# Altium schematic symbol library Amplifier_Instrumentation.SchLib: 36 symbols
Pins are listed as number, name and electrical type; pins without a type are passive.

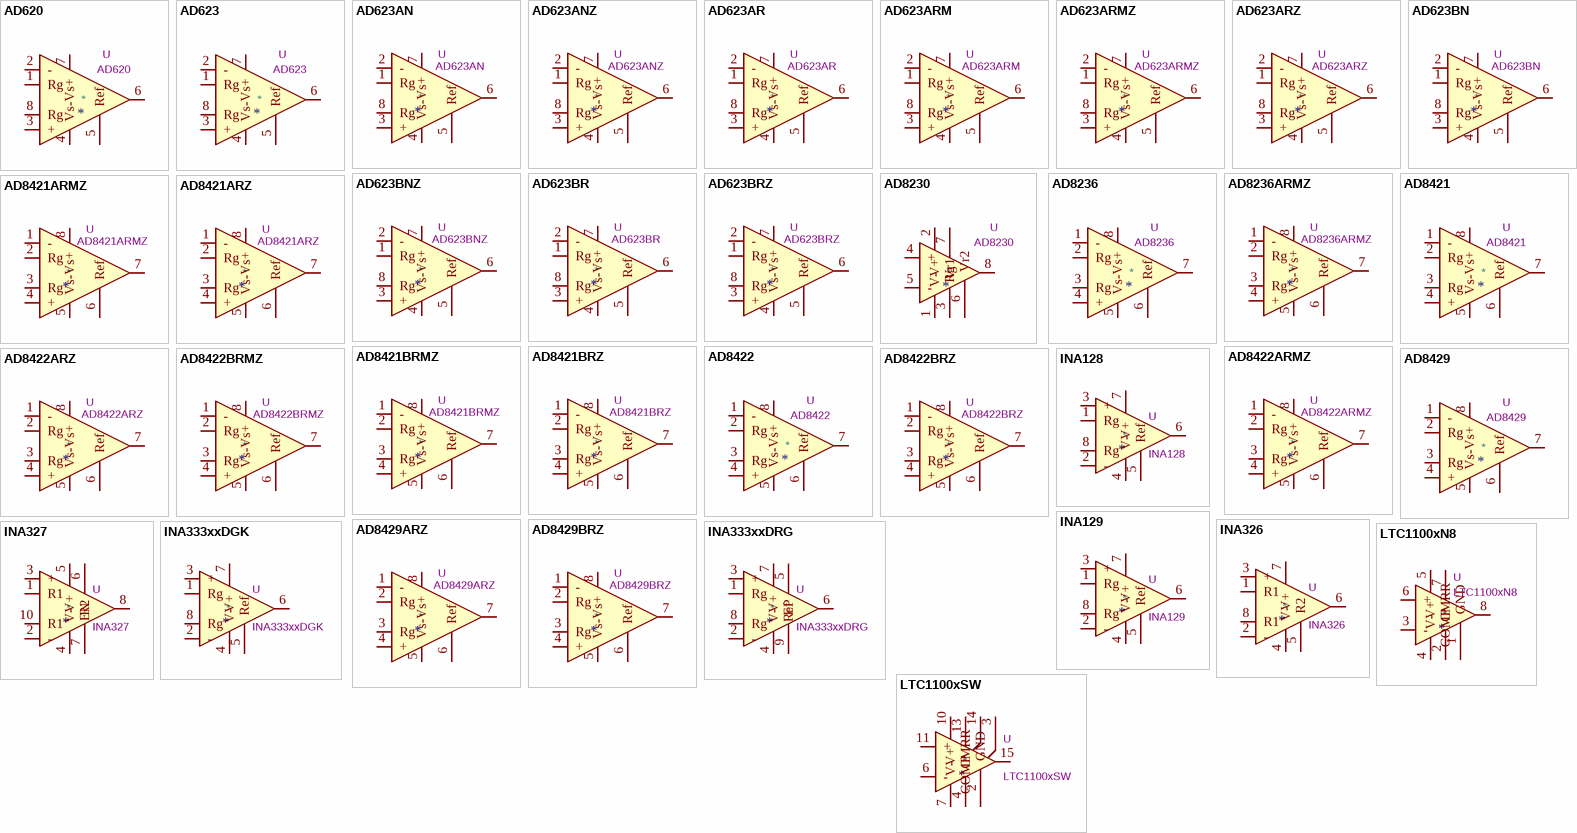
[diagram p0: symbols AD620 to LTC1100xSW]

## AD620
designator *  value AD620  Reference: U
ki_keywords: Instrumentation amplifier; ki_description: Low Cost, Low Power, Instrumentation Amplifier, DIP-8/SOIC-8; ki_fp_filters: SOIC*P1.27mm* DIP*W7.62mm*; Datasheet: https://www.analog.com/media/en/technical-documentation/data-sheets/AD620.pdf
pins: 1 Rg, 2 -, 3 +, 4 Vs-, 5 Ref, 6, 7 Vs+, 8 Rg

## AD623
designator *  value AD623  Reference: U
ki_keywords: single instumentation amplifier; ki_description: Single Rail-to-Rail, Low Cost Instrumentation Amplifier, DIP-8/SOIC-8/MSOP-8; ki_fp_filters: SOIC*P1.27mm* DIP*W7.62mm*; Datasheet: https://www.analog.com/media/en/technical-documentation/data-sheets/AD623.pdf
pins: 1 Rg, 2 -, 3 +, 4 Vs-, 5 Ref, 6, 7 Vs+, 8 Rg

## AD623AN
designator *  value AD623AN  Reference: U
ki_keywords: ad623 instumentation amplifier dip-8; ki_description: Single Supply, Rail to Rail, Instumentation Amplifier, DIP-8; ki_fp_filters: DIP-8*; Datasheet: https://www.analog.com/media/en/technical-documentation/data-sheets/AD623.pdf
pins: 1 Rg, 2 -, 3 +, 4 Vs-, 5 Ref, 6, 7 Vs+, 8 Rg

## AD623ANZ
designator *  value AD623ANZ  Reference: U
ki_keywords: ad623 instumentation amplifier dip-8; ki_description: Single Supply, Rail to Rail, Instumentation Amplifier, RoHS, DIP-8; ki_fp_filters: DIP-8*; Datasheet: https://www.analog.com/media/en/technical-documentation/data-sheets/AD623.pdf
pins: 1 Rg, 2 -, 3 +, 4 Vs-, 5 Ref, 6, 7 Vs+, 8 Rg

## AD623AR
designator *  value AD623AR  Reference: U
ki_keywords: ad623 instumentation amplifier soic-8; ki_description: Single Supply, Rail to Rail, Instumentation Amplifier, SOIC-8; ki_fp_filters: SOIC-8*; Datasheet: https://www.analog.com/media/en/technical-documentation/data-sheets/AD623.pdf
pins: 1 Rg, 2 -, 3 +, 4 Vs-, 5 Ref, 6, 7 Vs+, 8 Rg

## AD623ARM
designator *  value AD623ARM  Reference: U
ki_keywords: ad623 instumentation amplifier msop-8; ki_description: Single Supply, Rail to Rail, Instumentation Amplifier, MSOP-8; ki_fp_filters: MSOP-8*; Datasheet: https://www.analog.com/media/en/technical-documentation/data-sheets/AD623.pdf
pins: 1 Rg, 2 -, 3 +, 4 Vs-, 5 Ref, 6, 7 Vs+, 8 Rg

## AD623ARMZ
designator *  value AD623ARMZ  Reference: U
ki_keywords: ad623 instumentation amplifier msop-8; ki_description: Single Supply, Rail to Rail, Instumentation Amplifier, RoHS, MSOP-8; ki_fp_filters: MSOP-8*; Datasheet: https://www.analog.com/media/en/technical-documentation/data-sheets/AD623.pdf
pins: 1 Rg, 2 -, 3 +, 4 Vs-, 5 Ref, 6, 7 Vs+, 8 Rg

## AD623ARZ
designator *  value AD623ARZ  Reference: U
ki_keywords: ad623 instumentation amplifier soic-8; ki_description: Single Supply, Rail to Rail, Instumentation Amplifier, RoHS, SOIC-8; ki_fp_filters: SOIC-8*; Datasheet: https://www.analog.com/media/en/technical-documentation/data-sheets/AD623.pdf
pins: 1 Rg, 2 -, 3 +, 4 Vs-, 5 Ref, 6, 7 Vs+, 8 Rg

## AD623BN
designator *  value AD623BN  Reference: U
ki_keywords: ad623 instumentation amplifier dip-8; ki_description: Single Supply, Rail to Rail, Instumentation Amplifier, DIP-8; ki_fp_filters: DIP-8*; Datasheet: https://www.analog.com/media/en/technical-documentation/data-sheets/AD623.pdf
pins: 1 Rg, 2 -, 3 +, 4 Vs-, 5 Ref, 6, 7 Vs+, 8 Rg

## AD623BNZ
designator *  value AD623BNZ  Reference: U
ki_keywords: ad623 instumentation amplifier dip-8; ki_description: Single Supply, Rail to Rail, Instumentation Amplifier, RoHS, DIP-8; ki_fp_filters: DIP-8*; Datasheet: https://www.analog.com/media/en/technical-documentation/data-sheets/AD623.pdf
pins: 1 Rg, 2 -, 3 +, 4 Vs-, 5 Ref, 6, 7 Vs+, 8 Rg

## AD623BR
designator *  value AD623BR  Reference: U
ki_keywords: ad623 instumentation amplifier soic-8; ki_description: Single Supply, Rail to Rail, Instumentation Amplifier, SOIC-8; ki_fp_filters: SOIC-8*; Datasheet: https://www.analog.com/media/en/technical-documentation/data-sheets/AD623.pdf
pins: 1 Rg, 2 -, 3 +, 4 Vs-, 5 Ref, 6, 7 Vs+, 8 Rg

## AD623BRZ
designator *  value AD623BRZ  Reference: U
ki_keywords: ad623 instumentation amplifier soic-8; ki_description: Single Supply, Rail to Rail, Instumentation Amplifier, RoHS, SOIC-8; ki_fp_filters: SOIC-8*; Datasheet: https://www.analog.com/media/en/technical-documentation/data-sheets/AD623.pdf
pins: 1 Rg, 2 -, 3 +, 4 Vs-, 5 Ref, 6, 7 Vs+, 8 Rg

## AD8230
designator *  value AD8230  Reference: U
ki_keywords: single instrumentation amplifier; ki_description: 16V Rail-to-Rail, Zero-Drift, Precision Instrumentation Amplifier, SOIC-8; ki_fp_filters: SOIC*3.9x4.9mm*P1.27mm*; Footprint: Package_SO:SOIC-8_3.9x4.9mm_P1.27mm; Datasheet: https://www.analog.com/media/en/technical-documentation/data-sheets/AD8230.pdf
pins: 1 V-, 2 V+, 3 Vr1, 4 +, 5 -, 6 Vr2, 7 Rg, 8

## AD8236
designator *  value AD8236  Reference: U
ki_keywords: single instumentation amplifier; ki_description: Single 40 μA Micropower Instrumentation Amplifier with Zero Crossover Distortion, MSOP-8; ki_fp_filters: SOIC*3.9x4.9mm*P1.27mm* MSOP*3x3mm*P0.65mm*; Datasheet: https://www.analog.com/media/en/technical-documentation/data-sheets/AD8236.pdf
pins: 1 -, 2 Rg, 3 Rg, 4 +, 5 Vs-, 6 Ref, 7, 8 Vs+

## AD8236ARMZ
designator *  value AD8236ARMZ  Reference: U
ki_keywords: ad8236 instumentation amplifier msop-8; ki_description: Micropower Instumentation Amplifier with Zero Crossover Distortion, MSOP-8; ki_fp_filters: MSOP-8*; Datasheet: https://www.analog.com/media/en/technical-documentation/data-sheets/AD8236.pdf
pins: 1 -, 2 Rg, 3 Rg, 4 +, 5 Vs-, 6 Ref, 7, 8 Vs+

## AD8421
designator *  value AD8421  Reference: U
ki_keywords: single instumentation amplifier; ki_description: Single Low Power Instrumentation Amplifier, SOIC-8/MSOP-8; ki_fp_filters: SOIC*3.9x4.9mm*P1.27mm* MSOP*3x3mm*P0.65mm*; Datasheet: https://www.analog.com/media/en/technical-documentation/data-sheets/AD8421.pdf
pins: 1 -, 2 Rg, 3 Rg, 4 +, 5 Vs-, 6 Ref, 7, 8 Vs+

## AD8421ARMZ
designator *  value AD8421ARMZ  Reference: U
ki_keywords: ad8421 instumentation amplifier msop-8; ki_description: Low Power,  Instumentation Amplifier, MSOP-8; ki_fp_filters: MSOP-8*; Datasheet: https://www.analog.com/media/en/technical-documentation/data-sheets/AD8421.pdf
pins: 1 -, 2 Rg, 3 Rg, 4 +, 5 Vs-, 6 Ref, 7, 8 Vs+

## AD8421ARZ
designator *  value AD8421ARZ  Reference: U
ki_keywords: ad8421 instumentation amplifier soic-8; ki_description: Low Power, Instumentation Amplifier, SOIC-8; ki_fp_filters: SOIC-8*; Datasheet: https://www.analog.com/media/en/technical-documentation/data-sheets/AD8421.pdf
pins: 1 -, 2 Rg, 3 Rg, 4 +, 5 Vs-, 6 Ref, 7, 8 Vs+

## AD8421BRMZ
designator *  value AD8421BRMZ  Reference: U
ki_keywords: ad8421 instumentation amplifier msop-8; ki_description: Low Power, Instumentation Amplifier, MSOP-8; ki_fp_filters: MSOP-8*; Datasheet: https://www.analog.com/media/en/technical-documentation/data-sheets/AD8421.pdf
pins: 1 -, 2 Rg, 3 Rg, 4 +, 5 Vs-, 6 Ref, 7, 8 Vs+

## AD8421BRZ
designator *  value AD8421BRZ  Reference: U
ki_keywords: ad8421 instumentation amplifier soic-8; ki_description: Low Power, Instumentation Amplifier, SOIC-8; ki_fp_filters: SOIC-8*; Datasheet: https://www.analog.com/media/en/technical-documentation/data-sheets/AD8421.pdf
pins: 1 -, 2 Rg, 3 Rg, 4 +, 5 Vs-, 6 Ref, 7, 8 Vs+

## AD8422
designator *  value AD8422  Reference: U
ki_keywords: single instumentation amplifier; ki_description: Single High Performance, Low Power, Rail-to-Rail Precision Instrumentation Amplifier, SOIC-8/MSOP-8; ki_fp_filters: SOIC*3.9x4.9mm*P1.27mm* MSOP*3x3mm*P0.65mm*; Datasheet: https://www.analog.com/media/en/technical-documentation/data-sheets/AD8422.pdf
pins: 1 -, 2 Rg, 3 Rg, 4 +, 5 Vs-, 6 Ref, 7, 8 Vs+

## AD8422ARMZ
designator *  value AD8422ARMZ  Reference: U
ki_keywords: ad8422 instumentation amplifier msop-8; ki_description: Low Power, Rail to Rail, Instumentation Amplifier, MSOP-8; ki_fp_filters: MSOP-8*; Datasheet: https://www.analog.com/media/en/technical-documentation/data-sheets/AD8422.pdf
pins: 1 -, 2 Rg, 3 Rg, 4 +, 5 Vs-, 6 Ref, 7, 8 Vs+

## AD8422ARZ
designator *  value AD8422ARZ  Reference: U
ki_keywords: ad8422 instumentation amplifier soic-8; ki_description: Low Power, Rail to Rail, Instumentation Amplifier, SOIC-8; ki_fp_filters: SOIC-8*; Datasheet: https://www.analog.com/media/en/technical-documentation/data-sheets/AD8422.pdf
pins: 1 -, 2 Rg, 3 Rg, 4 +, 5 Vs-, 6 Ref, 7, 8 Vs+

## AD8422BRMZ
designator *  value AD8422BRMZ  Reference: U
ki_keywords: ad8422 instumentation amplifier msop-8; ki_description: Low Power, Rail to Rail, Instumentation Amplifier, MSOP-8; ki_fp_filters: MSOP-8*; Datasheet: https://www.analog.com/media/en/technical-documentation/data-sheets/AD8422.pdf
pins: 1 -, 2 Rg, 3 Rg, 4 +, 5 Vs-, 6 Ref, 7, 8 Vs+

## AD8422BRZ
designator *  value AD8422BRZ  Reference: U
ki_keywords: ad8422 instumentation amplifier soic-8; ki_description: Low Power, Rail to Rail, Instumentation Amplifier, SOIC-8; ki_fp_filters: SOIC-8*; Datasheet: https://www.analog.com/media/en/technical-documentation/data-sheets/AD8422.pdf
pins: 1 -, 2 Rg, 3 Rg, 4 +, 5 Vs-, 6 Ref, 7, 8 Vs+

## AD8429
designator *  value AD8429  Reference: U
ki_keywords: single instumentation amplifier; ki_description: Single Low Noise Instrumentation Amplifier, SOIC-8; ki_fp_filters: SOIC*3.9x4.9mm*P1.27mm* MSOP*3x3mm*P0.65mm*; Datasheet: https://www.analog.com/media/en/technical-documentation/data-sheets/AD8429.pdf
pins: 1 -, 2 Rg, 3 Rg, 4 +, 5 Vs-, 6 Ref, 7, 8 Vs+

## AD8429ARZ
designator *  value AD8429ARZ  Reference: U
ki_keywords: ad8429 instumentation amplifier soic-8; ki_description: Low Noise, Instumentation Amplifier, SOIC-8; ki_fp_filters: SOIC-8*; Datasheet: https://www.analog.com/media/en/technical-documentation/data-sheets/AD8429.pdf
pins: 1 -, 2 Rg, 3 Rg, 4 +, 5 Vs-, 6 Ref, 7, 8 Vs+

## AD8429BRZ
designator *  value AD8429BRZ  Reference: U
ki_keywords: ad8429 instumentation amplifier soic-8; ki_description: Low Noise, Instumentation Amplifier, SOIC-8; ki_fp_filters: SOIC-8*; Datasheet: https://www.analog.com/media/en/technical-documentation/data-sheets/AD8429.pdf
pins: 1 -, 2 Rg, 3 Rg, 4 +, 5 Vs-, 6 Ref, 7, 8 Vs+

## INA128
designator *  value INA128  Reference: U
ki_keywords: instrumentation opamp; ki_description: Precision, Low Power Instrumentation Amplifier G = 1 + 50kOhm/Rg, DIP-8/SOIC-8; ki_fp_filters: DIP*W7.62mm* SOIC*P1.27mm*; Datasheet: http://www.ti.com/lit/ds/symlink/ina128.pdf
pins: 1 Rg, 2 -, 3 +, 4 V-, 5 Ref, 6, 7 V+, 8 Rg

## INA129
designator *  value INA129  Reference: U
ki_keywords: instrumentation opamp; ki_description: Precision, Low Power Instrumentation Amplifier G = 1 + 49.4kOhm/Rg, DIP-8/SOIC-8; ki_fp_filters: DIP*W7.62mm* SOIC*P1.27mm*; Datasheet: http://www.ti.com/lit/ds/symlink/ina128.pdf
pins: 1 Rg, 2 -, 3 +, 4 V-, 5 Ref, 6, 7 V+, 8 Rg

## INA326
designator *  value INA326  Reference: U
ki_keywords: instrumentation opamp; ki_description: Precision, Rail-to-Rail I/O Instrumentation Amplifier, MSOP-8 package; ki_fp_filters: MSOP*3x3mm*P0.65mm*; Footprint: Package_SO:MSOP-8_3x3mm_P0.65mm; Datasheet: http://www.ti.com/lit/ds/symlink/ina326.pdf
pins: 1 R1, 2 -, 3 +, 4 V-, 5 R2, 6, 7 V+, 8 R1

## INA327
designator *  value INA327  Reference: U
ki_keywords: instrumentation opamp; ki_description: Precision, Rail-to-Rail I/O Instrumentation Amplifier, MSOP-10 package; ki_fp_filters: MSOP*3x3mm*P0.5mm*; Footprint: Package_SO:MSOP-10_3x3mm_P0.5mm; Datasheet: http://www.ti.com/lit/ds/symlink/ina326.pdf
pins: 1 R1, 2 -, 3 +, 4 V-, 5 V+, 6 EN, 7 R2, 8, 9 V+ hidden, 10 R1

## INA333xxDGK
designator *  value INA333xxDGK  Reference: U
ki_keywords: instrumentation opamp amplifier; ki_description: Zero Drift, Micropower Instrumentation Amplifier G = 1 + 100kOhm/Rg, VSSOP-8; ki_fp_filters: VSSOP*3.0x3.0mm*P0.65mm*; Footprint: Package_SO:VSSOP-8_3.0x3.0mm_P0.65mm; Datasheet: https://www.ti.com/lit/ds/symlink/ina333.pdf
pins: 1 Rg, 2 -, 3 +, 4 V-, 5 Ref, 6, 7 V+, 8 Rg

## INA333xxDRG
designator *  value INA333xxDRG  Reference: U
ki_keywords: instrumentation opamp amplifier; ki_description: Zero Drift, Micropower Instrumentation Amplifier G = 1 + 100kOhm/Rg, WSON-8; ki_fp_filters: WSON*3x3mm*P0.5mm*; Footprint: Package_SON:WSON-8-1EP_3x3mm_P0.5mm_EP1.45x2.4mm; Datasheet: https://www.ti.com/lit/ds/symlink/ina333.pdf
pins: 1 Rg, 2 -, 3 +, 4 V-, 5 Ref, 6, 7 V+, 8 Rg, 9 EP

## LTC1100xN8
designator *  value LTC1100xN8  Reference: U
ki_keywords: single instrumentation amp; ki_description: Single Precision, Zero-Drift Instrumentation Amplifier, Gain = 100, DIP-8; ki_fp_filters: DIP*W7.62mm*; Footprint: Package_DIP:DIP-8_W7.62mm; Datasheet: https://www.analog.com/media/en/technical-documentation/data-sheets/1100fc.pdf
pins: 1 GND, 2 CMRR, 3 -, 4 V-, 5 V+, 6 +, 7 COMP, 8

## LTC1100xSW
designator *  value LTC1100xSW  Reference: U
ki_keywords: single instrumentation amp; ki_description: Single Precision, Zero-Drift Instrumentation Amplifier, Gain = 10/100, SOIC-16W; ki_fp_filters: SOIC*7.5x10.3mm*P1.27mm*; Footprint: Package_SO:SOIC-16W_7.5x10.3mm_P1.27mm; Datasheet: https://www.analog.com/media/en/technical-documentation/data-sheets/1100fc.pdf
pins: 1 NC hidden, 2 GND, 3, 4 CMRR, 5 NC hidden, 6 -, 7 V-, 8 NC hidden, 9 NC hidden, 10 V+, 11 +, 12 NC hidden, 13 COMP, 14, 15, 16 NC hidden